# EAGLE library part SFH6943 (library opto-vishay)
Optocoupler, Phototransistor Output Quad Channel Source: http://www.vishay.com/docs/83688/83688.pdf
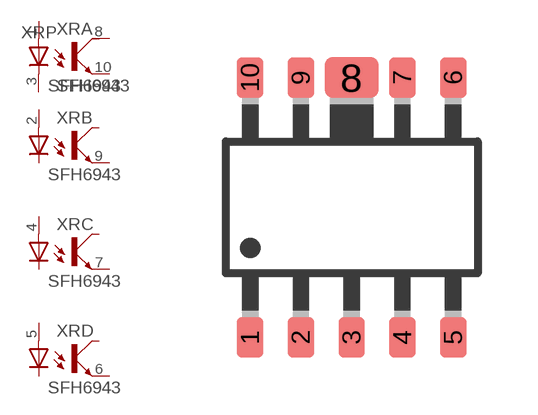
[diagram p1: symbol with the pads of SOT223/10; footprint SOT223/10]

Designator prefix XR; gates A=L-A-T-E B=L-A-T-E C=L-A-T-E D=L-A-T-E P=COM-C-E

## SFH6943  [SOT223/10]
1  A:A  pas
2  B:A  pas
3  P:COM-CAT  pas
4  C:A  pas
5  D:A  pas
6  D:EMI  pas
7  C:EMI  pas
8  P:COM-COL  pas
9  B:EMI  pas
10  A:EMI  pas

## Footprint SOT223/10 (pad centres in mm)
SOT223/10 Package Source: http://www.vishay.com/docs/83688/83688.pdf
smd 0.66 x 1.02: 1 -2.54,-3.251; 2 -1.27,-3.251; 3 0,-3.251; 4 1.27,-3.251; 5 2.54,-3.251; 6 2.54,3.251; 7 1.27,3.251; 9 -1.27,3.251; 10 -2.54,3.251
smd 1.35 x 1.02: 8 0,3.251